# Altium schematic symbol library lm324adt.SchLib: 1 symbol
Pins are listed as number, name and electrical type; pins without a type are passive.

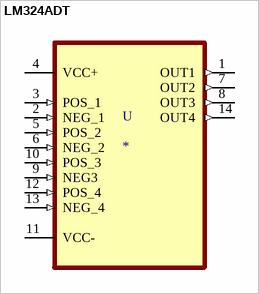
[diagram p0: symbol LM324ADT]

## LM324ADT
designator U
LM324A Series 32 V 1.3 MHz Low Power Quad Operational Amplifier - SOIC-14; MF: STMicroelectronics; MP: LM324ADT; Price: None; SnapEDA_Link: https://www.snapeda.com/parts/LM324ADT/STMicroelectronics/view-part/8254/?ref=snap; Value: *; Package: SOIC-14 STMicroelectronics; Availability: Unavailable
footprint SOIC127P600X175-14N
footprint SOIC127P600X175-14N
pins: 1 OUT1 (out), 2 NEG_1 (in), 3 POS_1 (in), 4 VCC+ (power), 5 POS_2 (in), 6 NEG_2 (in), 7 OUT2 (out), 8 OUT3 (out), 9 NEG3 (in), 10 POS_3 (in), 11 VCC- (power), 12 POS_4 (in), 13 NEG_4 (in), 14 OUT4 (out)